# Altium schematic symbol library Arriquitaun.SchLib: 18 symbols
Pins are listed as number, name and electrical type; pins without a type are passive.

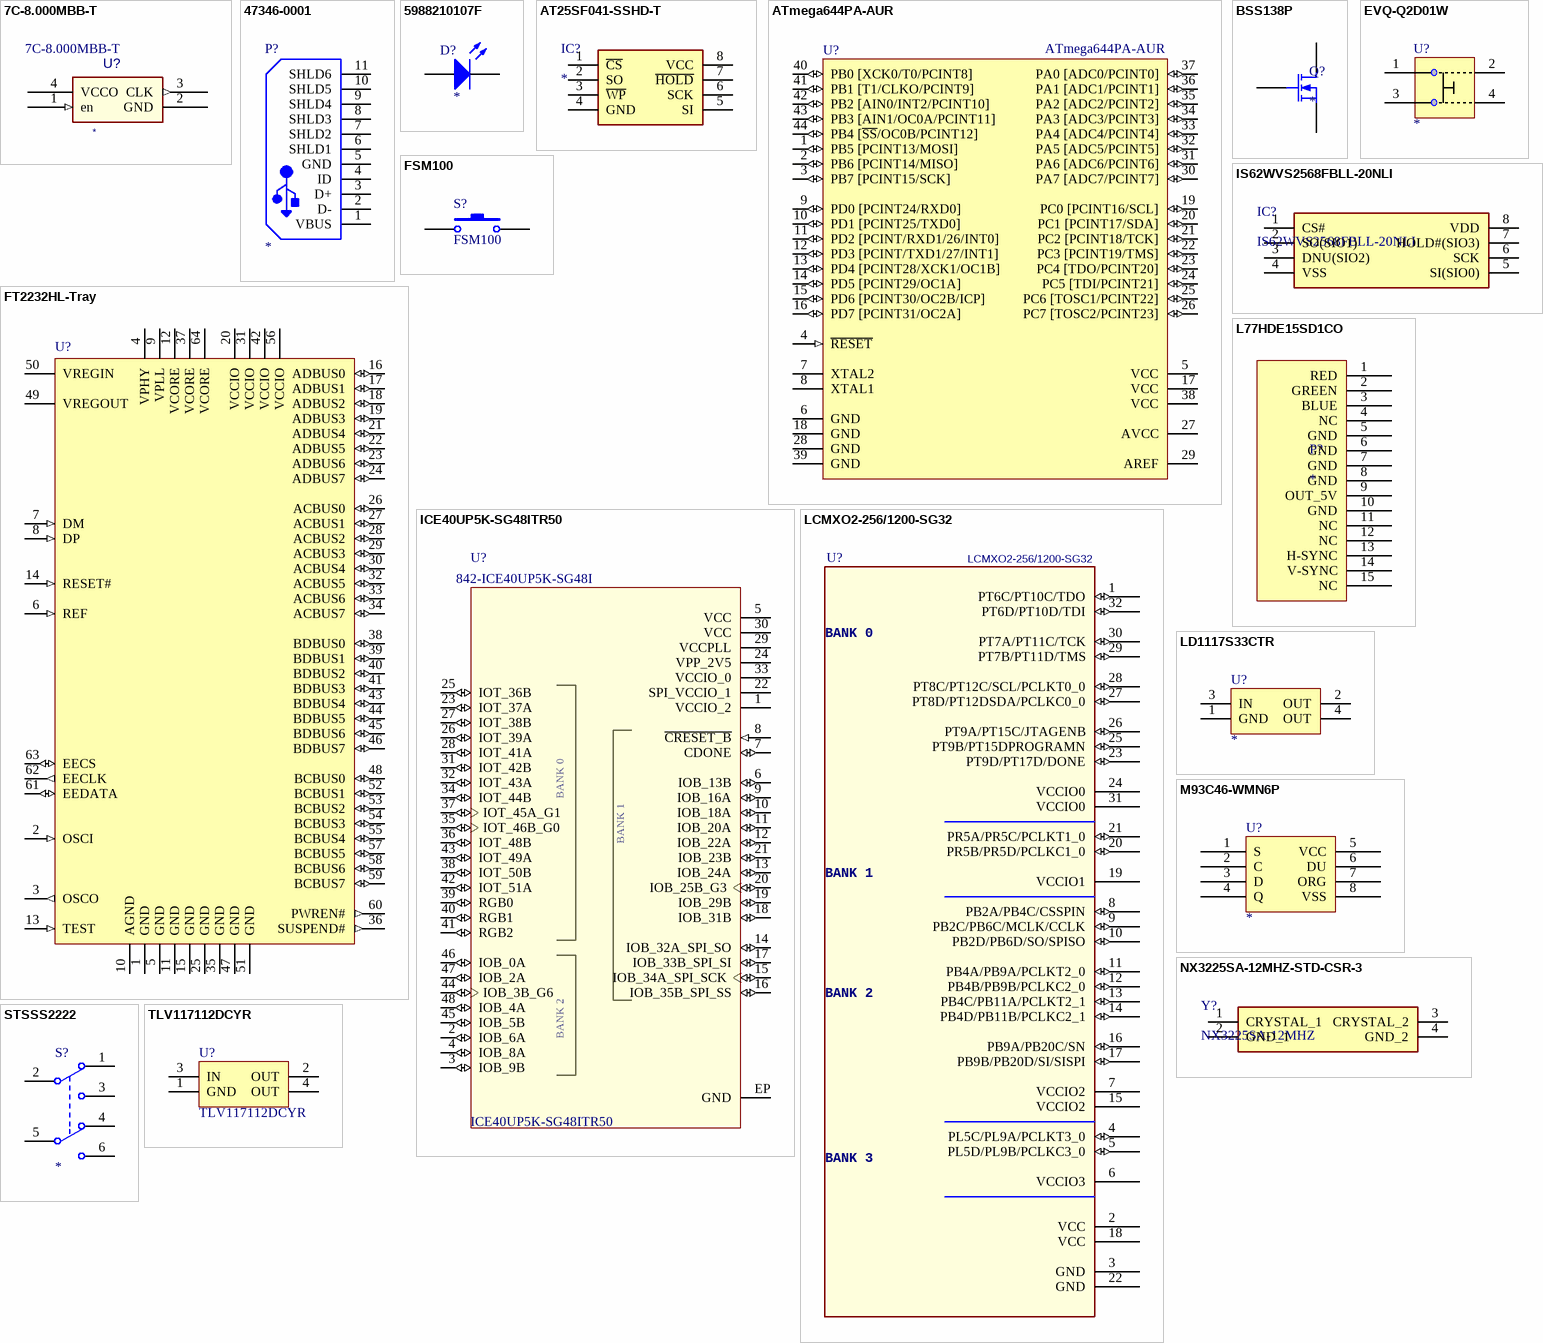
[diagram p0: symbols 7C-8.000MBB-T to TLV117112DCYR]

## 7C-8.000MBB-T
designator U?  Supplier Part Number 3: 7C-8.000MBB-T
Osciladores de reloj estándar 8 8.000MHz 3.3V50ppm(-10 +70C); Supplier 1: Mouser; ComponentLink1Description: Mouser; ComponentLink1URL: https://eu.mouser.com/ProductDetail/TXC-Corporation/7C-8000MBB-T?qs=%2Fha2pyFadugqK0KALn7gcPodYjrkh5fvaJ0tcmnA4H9lIK6XFORkGg%3D%3D; Supplier Part Number 1: 717-7C-8.000MBB-T; Supplier 2: Farnell; Supplier Part Number 2: 1842054; Supplier 3: Arrow
footprint OSCILADOR
pins: 1 en (in), 2 GND (power), 3 CLK (out), 4 VCCO (power)

## 47346-0001
designator P?
Conectores USB MICRO USB B RECPT BTTM MOUNT ASSY; Supplier 1: Mouser; ComponentLink1Description: Mouser; ComponentLink1URL: https://eu.mouser.com/ProductDetail/Molex/47346-0001?qs=%2Fha2pyFadugJe2m2PwsxZF%2FSs5SLGnHK0WVEsekv2hnqwx5TiE8qVw%3D%3D&utm_source=octopart&utm_medium=aggregator&utm_campaign=538-47346-0001&utm_content=Molex; Supplier Part Number 1: 538-47346-0001; Supplier 2: Farnell; Supplier Part Number 2: 2119232
footprint USB-MICRO-B_V (Footprint not found)
pins: 1 VBUS, 2 D-, 3 D+, 4 ID, 5 GND, 6 SHLD1, 7 SHLD2, 8 SHLD3, 9 SHLD4, 10 SHLD5, 11 SHLD6

## 5988210107F
designator D?
LED, Rojo, Montaje Superficial, 1206 (Métrico 3216), 20 mA, 2 V, 640 nm; Published: 8-Jun-2000; LatestRevisionDate: 17-Jul-2002; LatestRevisionNote: Re-released for DXP Platform.; PackageVersion: Feb-2002; PackageReference: 3.2X1.6X1.1; Publisher: Altium Limited; PackageDescription: SM LED; 2 Flat Leads; Supplier 1: Farnell; ComponentLink1Description: Mouser; ComponentLink1URL: https://eu.mouser.com/ProductDetail/Dialight/598-8210-107F?qs=sGAEpiMZZMseGfSY3csMkcUUSK%2FIVnSgwPTZO%252Bt9HCE%3D; Supplier Part Number 1: 1465997; Supplier 2: Mouser; Supplier Part Number 2: 645-598-8210-107F
simulation model LED2 (Diode)
footprint 1206 - LED
pins: 1 A, 2 K

## AT25SF041-SSHD-T
designator IC?
Flash NOR 4Mb, 2.5-3.6V,104Mhz Serial Flash; Manufacturer_Name: Adesto Technologies; Manufacturer_Part_Number: AT25SF041-SSHD-T; Datasheet Link: https://www.adestotech.com/wp-content/uploads/DS-AT25SF041_044.pdf; Height: 1.75mm; Mouser Part Number: 988-AT25SF041-SSHD-T; Mouser Price/Stock: https://www.mouser.com/Search/Refine.aspx?Keyword=988-AT25SF041-SSHD-T; ComponentLink1Description: Mouser; ComponentLink1URL: https://www.mouser.es/ProductDetail/Adesto-Technologies/AT25SF041-SSHD-T?qs=sGAEpiMZZMtI%252BQ06EiAoG2tRW1ubUobjTmCSnL3k0Dw%3D; Supplier 1: Mouser; Supplier 2: Farnell; Supplier Part Number 1: 988-AT25SF041-SSHD-T; Supplier Part Number 2: 2909988
footprint SOIC127P600X175-8N
pins: 1 ~{CS}, 2 SO, 3 ~{WP}, 4 GND, 5 SI, 6 SCK, 7 ~{HOLD}, 8 VCC

## ATmega644PA-AUR
designator U?
8-bit AVR Microcontroller, 64KB Flash, 2KB EEPROM, 4KB SRAM, 44-pin TQFP, Industrial Grade (-40°C to 85°C), Reel; Published: 1-Apr-2010; DatasheetVersion: revA, Jan-2010; PackageVersion: rev.B, Oct-2001; PackageReference: 44A; Publisher: Altium Limited; PackageDescription: 44-Pin Plastic Thin Profile Quad Flat Pack, 10 x 10 x 1.0 mm Body, 0.8 mm Pitch (TQFP); ComponentLink1Description: Manufacturer Link; ComponentLink1URL: http://www.atmel.com/products/avr/default.asp?; ComponentLink2Description: ATmega164A/164PA/324A/324PA/644A/644PA/1284/1284P Datasheet; ComponentLink2URL: http://www.atmel.com/dyn/resources/prod_documents/doc8272.pdf; ComponentLink3Description: ATmega164A/164PA/324A/324PA/644A/644PA/1284/1284P Summary; ComponentLink3URL: http://www.atmel.com/dyn/resources/prod_documents/8272S.pdf; ComponentLink4Description: Atmel.com Home; ComponentLink4URL: http://www.atmel.com; Supplier 1: Mouser; Supplier Part Number 1: 556-ATMEGA644PA-AU; Supplier 2: Farnell; Supplier Part Number 2: 2484915
footprint 44A_N (Thin QFP, 44-Leads, Body 10x10mm, Pitch 0.8mm, IPC Medium Density)
footprint 44A_L (Thin QFP, 44-Leads, Body 10x10mm, Pitch 0.8mm, IPC High Density)
footprint 44A_M (Thin QFP, 44-Leads, Body 10x10mm, Pitch 0.8mm, IPC Low Density)
footprint 44A_N (Thin QFP, 44-Leads, Body 10x10mm, Pitch 0.8mm, IPC Medium Density)
footprint 44A_N (Thin QFP, 44-Leads, Body 10x10mm, Pitch 0.8mm, IPC Medium Density)
pins: 1 PB5 [PCINT13/MOSI] (io), 2 PB6 [PCINT14/MISO] (io), 3 PB7 [PCINT15/SCK] (io), 4 ~{RESET} (in), 5 VCC (power), 6 GND (power), 7 XTAL2, 8 XTAL1, 9 PD0 [PCINT24/RXD0] (io), 10 PD1 [PCINT25/TXD0] (io), 11 PD2 [PCINT/RXD1/26/INT0] (io), 12 PD3 [PCINT/TXD1/27/INT1] (io), 13 PD4 [PCINT28/XCK1/OC1B] (io), 14 PD5 [PCINT29/OC1A] (io), 15 PD6 [PCINT30/OC2B/ICP] (io), 16 PD7 [PCINT31/OC2A] (io), 17 VCC (power), 18 GND (power), 19 PC0 [PCINT16/SCL] (io), 20 PC1 [PCINT17/SDA] (io), 21 PC2 [PCINT18/TCK] (io), 22 PC3 [PCINT19/TMS] (io), 23 PC4 [TDO/PCINT20] (io), 24 PC5 [TDI/PCINT21] (io), 25 PC6 [TOSC1/PCINT22] (io), 26 PC7 [TOSC2/PCINT23] (io), 27 AVCC (power), 28 GND (power), 29 AREF (power), 30 PA7 [ADC7/PCINT7] (io), 31 PA6 [ADC6/PCINT6] (io), 32 PA5 [ADC5/PCINT5] (io), 33 PA4 [ADC4/PCINT4] (io), 34 PA3 [ADC3/PCINT3] (io), 35 PA2 [ADC2/PCINT2] (io), 36 PA1 [ADC1/PCINT1] (io), 37 PA0 [ADC0/PCINT0] (io), 38 VCC (power), 39 GND (power), 40 PB0 [XCK0/T0/PCINT8] (io), 41 PB1 [T1/CLKO/PCINT9] (io), 42 PB2 [AIN0/INT2/PCINT10] (io), 43 PB3 [AIN1/OC0A/PCINT11] (io), 44 PB4 [~{SS}/OC0B/PCINT12] (io)

## BSS138P
designator Q?
MOSFET N-CH 60 V 360 mA; ComponentLink1Description: Mouser; ComponentLink1URL: https://www.mouser.es/ProductDetail/Nexperia/BSS138P215?qs=sGAEpiMZZMuW3D0gRv32gn9EhwRhF9cb; Supplier 1: Digi-Key; Supplier 2: Farnell; Supplier 3: Mouser; Supplier Part Number 1: 1727-1142-6-ND; Supplier Part Number 2: 1859849RL; Supplier Part Number 3: 771-BSS138P215
footprint *SOT23-W
pins: 1 G, 2 S, 3 D

## EVQ-Q2D01W
designator U?
Interruptores táctiles Switch Light Touch 6mm Square SMD; Supplier 1: Mouser; Supplier Part Number 1: 667-EVQ-Q2D01W; Supplier 2: Farnell; Supplier Part Number 2: 1821242RL
footprint PUSHBUTTON (Footprint not found)
pins: 1, 2, 3, 4

## FSM100
designator S?
Interruptores táctiles 12mm FLSH OFF-(ON); Published: 24-Mar-1999; LatestRevisionDate: 17-Jul-2002; LatestRevisionNote: Re-released for DXP Platform.; PackageReference: SPST-2; Publisher: Altium Limited; PackageDescription: Switch; 2 Leads; Supplier 1: Mouser; Supplier Part Number 1: 506-FSM100; Supplier 2: Farnell; Supplier Part Number 2: 1570388
footprint SPST-2 (Switch; 2 Leads)
footprint FSM100 (Switch button)
pins: 1, 2

## FT2232HL-Tray
designator U?  (value not drawn)
Dual High Speed USB To Multipurpose UART/FIFO IC, 64-pin LQFP, Tray; Manufacturer: FTDI; DatasheetVersion: ver 2.21, Jun-2012; PackageVersion: Jun-12; PackageReference: LQFP-64; PackageDescription: 64-Pin Thin Quad Flat Pack, 10 x 10 x 1.4 mm Body, 0.5 mm Pitch; PartNumber: FT2232HL-Tray; ComponentLink1Description: Manufacturer URL; ComponentLink1URL: http://www.ftdichip.com/; ComponentLink2Description: Datasheet; ComponentLink2URL: http://www.ftdichip.com/Support/Documents/DataSheets/ICs/DS_FT2232H.pdf; Supplier 1: Mouser; Supplier Part Number 1: 895-FT2232HL; Supplier 2: Digi-Key; Supplier Part Number 2: 768-1347-ND
footprint LQFP-64_N (Thin QFP, 64-Leads, Body 10x10mm, Pitch 0.5mm, IPC Medium Density)
footprint LQFP-64_L (Thin QFP, 64-Leads, Body 10x10mm, Pitch 0.5mm, IPC High Density)
footprint LQFP-64_M (Thin QFP, 64-Leads, Body 10x10mm, Pitch 0.5mm, IPC Low Density)
pins: 1 GND (power), 2 OSCI (in), 3 OSCO (out), 4 VPHY (power), 5 GND (power), 6 REF (in), 7 DM (in), 8 DP (in), 9 VPLL (power), 10 AGND (power), 11 GND (power), 12 VCORE (power), 13 TEST (in), 14 RESET# (in), 15 GND (power), 16 ADBUS0 (io), 17 ADBUS1 (io), 18 ADBUS2 (io), 19 ADBUS3 (io), 20 VCCIO (power), 21 ADBUS4 (io), 22 ADBUS5 (io), 23 ADBUS6 (io), 24 ADBUS7 (io), 25 GND (power), 26 ACBUS0 (io), 27 ACBUS1 (io), 28 ACBUS2 (io), 29 ACBUS3 (io), 30 ACBUS4 (io), 31 VCCIO (power), 32 ACBUS5 (io), 33 ACBUS6 (io), 34 ACBUS7 (io), 35 GND (power), 36 SUSPEND# (out), 37 VCORE (power), 38 BDBUS0 (io), 39 BDBUS1 (io), 40 BDBUS2 (io), 41 BDBUS3 (io), 42 VCCIO (power), 43 BDBUS4 (io), 44 BDBUS5 (io), 45 BDBUS6 (io), 46 BDBUS7 (io), 47 GND (power), 48 BCBUS0 (io), 49 VREGOUT (power), 50 VREGIN (power), 51 GND (power), 52 BCBUS1 (io), 53 BCBUS2 (io), 54 BCBUS3 (io), 55 BCBUS4 (io), 56 VCCIO (power), 57 BCBUS5 (io), 58 BCBUS6 (io), 59 BCBUS7 (io), 60 PWREN# (out), 61 EEDATA (io), 62 EECLK (out), 63 EECS (io), 64 VCORE (power)

## ICE40UP5K-SG48ITR50
designator U?  Supplier Part Number 3: 842-ICE40UP5K-SG48I
iCE40 UltraPlus 5280 LUTs 39 I/O 1.2 V Surface Mount FOPGA - QFN-48; MF: Lattice Semiconductor; SnapEDA_Link: https://www.snapeda.com/parts/ICE40UP5K-SG48ITR50/Lattice%20Semiconductor%20Corporation/view-part/?ref=snap; Package: QFN-48 Lattice Semiconductor; Availability: Unavailable; Price: None; MP: ICE40UP5K-SG48ITR50; Value: *; Supplier 1: Mouser; Supplier Part Number 1: 842-E40UP5KSG48ITR50; Supplier 2: Digi-Key; Supplier Part Number 2: 220-2145-6-ND; Supplier 3: Mouser
footprint *QFN50P700X700X100-49N_ICE40UP5K-SG48ITR50(Primary)
pins: 1 VCCIO_2 (power), 2 IOB_6A (io), 3 IOB_9B (io), 4 IOB_8A (io), 5 VCC (power), 6 IOB_13B (io), 7 CDONE (io), 8 ~{CRESET_B} (in), 9 IOB_16A (io), 10 IOB_18A (io), 11 IOB_20A (io), 12 IOB_22A (io), 13 IOB_24A (io), 14 IOB_32A_SPI_SO (io), 15 IOB_34A_SPI_SCK (io), 16 IOB_35B_SPI_SS (io), 17 IOB_33B_SPI_SI (io), 18 IOB_31B (io), 19 IOB_29B (io), 20 IOB_25B_G3 (io), 21 IOB_23B (io), 22 SPI_VCCIO_1 (power), 23 IOT_37A (io), 24 VPP_2V5 (power), 25 IOT_36B (io), 26 IOT_39A (io), 27 IOT_38B (io), 28 IOT_41A (io), 29 VCCPLL (power), 30 VCC (power), 31 IOT_42B (io), 32 IOT_43A (io), 33 VCCIO_0 (power), 34 IOT_44B (io), 35 IOT_46B_G0 (io), 36 IOT_48B (io), 37 IOT_45A_G1 (io), 38 IOT_50B (io), 39 RGB0 (io), 40 RGB1 (io), 41 RGB2 (io), 42 IOT_51A (io), 43 IOT_49A (io), 44 IOB_3B_G6 (io), 45 IOB_5B (io), 46 IOB_0A (io), 47 IOB_2A (io), 48 IOB_4A (io), EP GND (power)
text: BANK 0; BANK 1; BANK 2

## IS62WVS2568FBLL-20NLI
designator IC?
SRAM 2Mb 256Kx8 20MHz 2.2-3.6V Serial SRAM; Manufacturer_Name: Integrated Silicon Solution Inc.; Datasheet Link: http://www.issi.com/WW/pdf/IS62-65WVS2568FALL-BLL.pdf; Height: 1.75mm; Manufacturer_Part_Number: IS62WVS2568FBLL-20NLI; Mouser Part Number: 870-WVS2568FBLL20NLI; Mouser Price/Stock: https://www.mouser.com/Search/Refine.aspx?Keyword=870-WVS2568FBLL20NLI; Supplier 1: Mouser; ComponentLink1Description: Mouser; ComponentLink1URL: https://www.mouser.es/ProductDetail/ISSI/IS62WVS2568FBLL-20NLI?qs=sGAEpiMZZMs6Aik9Fp479pkTONfEyU%252BtPqF9anFQNgY%3D; Supplier Part Number 1: 870-WVS2568FBLL20NLI
footprint SOIC127P600X175-8N
pins: 1 CS#, 2 SO(SIO1), 3 DNU(SIO2), 4 VSS, 5 SI(SIO0), 6 SCK, 7 HOLD#(SIO3), 8 VDD

## L77HDE15SD1CO
designator P?
D-Sub High Density Connectors D SUB; ComponentLink1Description: Mouser; ComponentLink1URL: https://www.mouser.es/ProductDetail/Amphenol-Commercial-Products/L77HDE15SD1CO?qs=sGAEpiMZZMvlX3nhDDO4AIhmb3wSIX3bv9XlW7v%2F%2FAg=; Supplier 1: Mouser; Supplier Part Number 1: 523-L77HDE15SD1CO
footprint DVI-15
pins: 1 RED, 2 GREEN, 3 BLUE, 4 NC, 5 GND, 6 GND, 7 GND, 8 GND, 9 OUT_5V, 10 GND, 11 NC, 12 NC, 13 H-SYNC, 14 V-SYNC, 15 NC

## LCMXO2-256/1200-SG32
designator U?
FPGA - Field Programmable Gate Array MachXO2 High Performance; 1280 LUTs; 2.5/3.3V; Supplier 1: Mouser; Supplier Part Number 1: 842-MXO21200HC6SG32C
footprint 32-QFN_M (QFN, 32-Leads, Body 5x5mm, Pitch 0.5mm, Thermal Pad 3.7x3.7mm, IPC Low Density)
footprint QFN32 5x5mm SOT617-3 (HVQFN, 32-Leads, Body 5.00x5.00mm, Pitch 0.50mm, Thermal Pad 3.60x3.60mm, IPC Medium Density)
pins: 1 PT6C/PT10C/TDO (io), 2 VCC (power), 3 GND (power), 4 PL5C/PL9A/PCLKT3_0 (io), 5 PL5D/PL9B/PCLKC3_0 (io), 6 VCCIO3 (power), 7 VCCIO2 (power), 8 PB2A/PB4C/CSSPIN (io), 9 PB2C/PB6C/MCLK/CCLK (io), 10 PB2D/PB6D/SO/SPISO (io), 11 PB4A/PB9A/PCLKT2_0 (io), 12 PB4B/PB9B/PCLKC2_0 (io), 13 PB4C/PB11A/PCLKT2_1 (io), 14 PB4D/PB11B/PCLKC2_1 (io), 15 VCCIO2 (power), 16 PB9A/PB20C/SN (io), 17 PB9B/PB20D/SI/SISPI (io), 18 VCC (power), 19 VCCIO1 (power), 20 PR5B/PR5D/PCLKC1_0 (io), 21 PR5A/PR5C/PCLKT1_0 (io), 22 GND (power), 23 PT9D/PT17D/DONE (io), 24 VCCIO0 (power), 25 PT9B/PT15DPROGRAMN (io), 26 PT9A/PT15C/JTAGENB (io), 27 PT8D/PT12DSDA/PCLKC0_0 (io), 28 PT8C/PT12C/SCL/PCLKT0_0 (io), 29 PT7B/PT11D/TMS (io), 30 PT7A/PT11C/TCK (io), 31 VCCIO0 (power), 32 PT6D/PT10D/TDI (io)
text: BANK 0; BANK 1; BANK 2; BANK 3

## LD1117S33CTR
designator U?
800mA and 1A Low Dropout Positive Regulator 2.85V, 3.3V, 5V, and Adjustable; Published: 8-Jun-2000; LatestRevisionDate: 17-Jul-2002; LatestRevisionNote: Re-released for DXP Platform.; DatasheetVersion: Sep-1997; PackageVersion: revC; PackageReference: ZZ311; Publisher: Altium Limited; PackageDescription: SOT-223/SC-73; 4 Leads; Body 6.7 x 7.3 mm, inc. leads (LxW max); ComponentLink1Description: Manufacturer Link; ComponentLink1URL: http://www.ti.com/; ComponentLink2Description: Datasheet; ComponentLink2URL: http://www-s.ti.com/sc/ds/REG1117.pdf; Supplier 1: Mouser; Supplier Part Number 1: 595-REG1117-3.3/2K5; Supplier 2: Farnell; Supplier Part Number 2: 1467779; Supplier 3: Digi-Key; Supplier 4: Farnell; Supplier Part Number 3: 497-1241-6-ND; Supplier Part Number 4: 2253482
footprint ZZ311 (SOT-223/SC-73; 4 Leads; Body 6.7 x 7.3 mm, inc. leads (LxW max))
pins: 1 GND (power), 2 OUT (power), 3 IN (power), 4 OUT (power)

## M93C46-WMN6P
designator U?
EEPROM 1 Kbit (128 x 8) 2.5V to 5.5V EEProm; Supplier 1: Mouser; Supplier Part Number 1: 511-M93C46-WMN6P; Supplier 2: Farnell; Supplier Part Number 2: 1224432; Supplier 3: Digi-Key; Supplier Part Number 3: 497-8590-5-ND
footprint SOP8_N (SOIC, 8-Leads, Body 4.9x3.9mm, Pitch 1.27mm, IPC Medium Density)
pins: 1 S, 2 C, 3 D, 4 Q, 5 VCC (power), 6 DU, 7 ORG, 8 VSS (power)

## NX3225SA-12MHZ-STD-CSR-3
designator Y?, comment NX3225SA-12MHZ
Crystal or Oscillator; Manufacturer_Name: NDK; Manufacturer_Part_Number: NX3225SA-24.000M-STD-CSR-3; Datasheet Link: https://media.digikey.com/pdf/Data%20Sheets/NDK%20PDFs/NX3225SA_STD-CSR-3.pdf; Height: 0.6mm; Mouser Part Number: 344-NX3225SA24MSTSR3; Mouser Price/Stock: https://www.mouser.com/Search/Refine.aspx?Keyword=344-NX3225SA24MSTSR3; RS Part Number: 1847826; RS Price/Stock: http://uk.rs-online.com/web/p/products/1847826; Supplier 1: Mouser; ComponentLink2Description: Mouser; ComponentLink2URL: NX3225SA-12MHZ-STD-CSR-3; Supplier Part Number 1: 344-NX3225SA12MCSR3; Supplier 2: Digi-Key; Supplier Part Number 2: 644-1179-6-ND
footprint NX3225SA12000MHZSTDCSR1
pins: 1 CRYSTAL_1, 2 GND_1, 3 CRYSTAL_2, 4 GND_2

## STSSS2222
designator S?
Interruptor Deslizante, DPDT, Taladro Pasante, Serie STSS2, 300 mA; Supplier 1: Farnell; Supplier Part Number 1: 1123873; Supplier 2: Newark; Supplier Part Number 2: 34M8660
footprint SWITCH
pins: 1 NC1, 2 COMMON1, 3 NO1, 4 NC2, 5 COMMON2, 6 NO2

## TLV117112DCYR
designator U?
Reguladores de voltaje LDO 1A + Fixed Vltg Lo-Drpout Linear Reg; Published: 8-Jun-2000; LatestRevisionDate: 17-Jul-2002; LatestRevisionNote: Re-released for DXP Platform.; DatasheetVersion: Sep-1997; PackageVersion: revC; PackageReference: ZZ311; Publisher: Altium Limited; PackageDescription: SOT-223/SC-73; 4 Leads; Body 6.7 x 7.3 mm, inc. leads (LxW max); ComponentLink1Description: Manufacturer Link; ComponentLink1URL: http://www.ti.com/; ComponentLink2Description: Datasheet; ComponentLink2URL: http://www-s.ti.com/sc/ds/REG1117.pdf; Supplier 1: Mouser; Supplier Part Number 1: 595-TLV117112DCYR; Supplier 2: Digi-Key; Supplier Part Number 2: 296-40595-1-ND
footprint ZZ311 (SOT-223/SC-73; 4 Leads; Body 6.7 x 7.3 mm, inc. leads (LxW max))
pins: 1 GND (power), 2 OUT (power), 3 IN (power), 4 OUT (power)